# Altium footprint library LPON_IC.PcbLib: 50 footprints (part 4 of 4)
Each footprint in its own frame and in the unit in brackets; x right, y up, seen from the top. Pads: shape width x height; smd on the part's side, far side on the other; paste and mask are expansions set on the pad; w line width, h text height; cw(c..) or ccw(c..) is an arc to the next point about the centre after c.
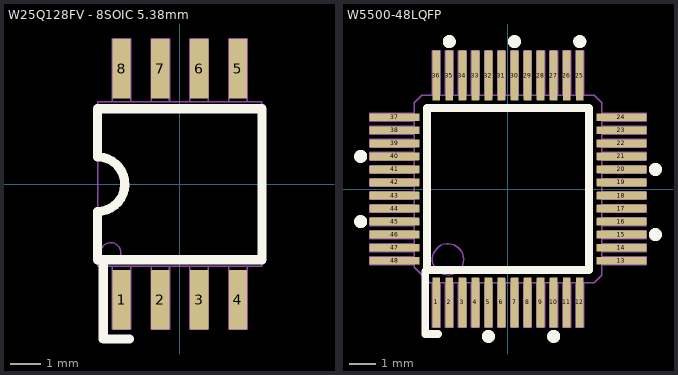
[diagram p3: the footprints below, top view; thin cyan lines are the x and y axes]

## W25Q128FV - 8SOIC 5.38mm [mm] "8-Pin SOIC 208 mil"
height 2.16
pads (8):
  rrect10% 0.6x1.95 smd mask+0.1: 1(-1.905,-3.775) 2(-0.635,-3.775) 3(0.635,-3.775) 4(1.905,-3.775) 5(1.905,3.775) 6(0.635,3.775) 7(-0.635,3.775) 8(-1.905,3.775)
Top Overlay:
  lines w0.05: -2.42,-5.05 -2.4,-5.03
  lines w0.3: -2.69,-2.47 -2.69,-0.893 ccw(c-2.69,0) -2.645,0.892 ; -2.69,0.892 -2.69,2.47 2.69,2.47 2.69,-2.47 -2.5,-2.47 -2.5,-5.065 -1.639,-5.065
Top hinh chieu bang:
  circle w0.05: c-2.26,-2.25 r0.334
  lines w0.05: -0.935,-2.69 -0.935,-4.75 -0.335,-4.75 -0.335,-2.69 ; -0.935,2.69 -0.935,4.75 -0.335,4.75 -0.335,2.69 ; 0.335,-2.69 0.335,-4.75 0.935,-4.75 0.935,-2.69 ; 0.335,2.69 0.335,4.75 0.935,4.75 0.935,2.69 ; 1.605,-2.69 1.605,-4.75 2.205,-4.75 2.205,-2.69 ; 1.605,2.69 1.605,4.75 2.205,4.75 2.205,2.69 ; -2.205,-4.75 -2.205,-2.69 -2.205,-4.75 ; -2.205,-4.75 -1.605,-4.75 ; -2.205,-4.75 -1.605,-4.75 ; -2.205,4.75 -1.605,4.75 ; -2.205,4.75 -2.205,2.69 -2.205,4.75 ; -2.205,4.75 -1.605,4.75 ; -1.605,-4.75 -1.605,-2.69 -1.605,-4.75 ; -1.605,4.75 -1.605,2.69 -1.605,4.75 ; -2.69,-2.69 2.69,-2.69 2.69,2.69 -2.69,2.69 -2.69,-2.69
  text "8" at -2.04,2.07 h0.4
  text "5" at 1.82,2.07 h0.4
  text "4" at 1.82,-2.51 h0.4
  text "1" at -1.76,-2.51 h0.4
3D body "User Library-SOIC8_(ATTINY12).step": height 2.22, standoff -0.1, extent -2.66,-4.356 2.72,4.036

## W5500-48LQFP [mm] "PT (S-PQFP-G48)"
height 1.6
pads (48):
  rrect10% 0.3x1.9 smd mask+0.05: 1(-2.75,-4.35) 2(-2.25,-4.35) 3(-1.75,-4.35) 4(-1.25,-4.35) 5(-0.75,-4.35) 6(-0.25,-4.35) 7(0.25,-4.35) 8(0.75,-4.35) 9(1.25,-4.35) 10(1.75,-4.35) 11(2.25,-4.35) 12(2.75,-4.35) 25(2.75,4.35) 26(2.25,4.35) 27(1.75,4.35) 28(1.25,4.35) 29(0.75,4.35) 30(0.25,4.35) 31(-0.25,4.35) 32(-0.75,4.35) 33(-1.25,4.35) 34(-1.75,4.35) 35(-2.25,4.35) 36(-2.75,4.35)
  rrect10% 1.9x0.3 smd mask+0.05: 13(4.35,-2.75) 14(4.35,-2.25) 15(4.35,-1.75) 16(4.35,-1.25) 17(4.35,-0.75) 18(4.35,-0.25) 19(4.35,0.25) 20(4.35,0.75) 21(4.35,1.25) 22(4.35,1.75) 23(4.35,2.25) 24(4.35,2.75) 37(-4.35,2.75) 38(-4.35,2.25) 39(-4.35,1.75) 40(-4.35,1.25) 41(-4.35,0.75) 42(-4.35,0.25) 43(-4.35,-0.25) 44(-4.35,-0.75) 45(-4.35,-1.25) 46(-4.35,-1.75) 47(-4.35,-2.25) 48(-4.35,-2.75)
Top Overlay:
  circle w0.3: c5.65,-1.75 r0.1
  circle w0.3: c-5.65,-1.25 r0.1
  circle w0.3: c-5.65,1.25 r0.1
  circle w0.3: c-2.25,5.65 r0.1
  circle w0.3: c0.25,5.65 r0.1
  circle w0.3: c2.75,5.65 r0.1
  circle w0.3: c5.65,0.75 r0.1
  circle w0.3: c1.75,-5.65 r0.1
  circle w0.3: c-0.75,-5.65 r0.1
  lines w0.3: -2.68,-5.56 -3.17,-5.56 -3.17,-3.16 -3.11,-3.1 -3.1,-3.1 ; -3.1,-3.1 -3.1,3.1 3.1,3.1 3.1,-3.1 -3.1,-3.1
Top hinh chieu bang:
  drawing of 201 lines, arcs and shapes, not listed
  text "25" at 1.2,2.6 h0.8
  text "12" at 1.3,-3.4 h0.8
  text "36" at -2.9,2.6 h0.8
  text "24" at 3.4,1.5 h0.8
  text "13" at 3.4,-2.9 h0.8
  text "37" at -2.6,1.5 h0.8
  text "48" at -2.7,-2.5 h0.8
3D body "PT0048A.stp": height 1.56, standoff 0.06, extent -4.507,-4.508 4.508,4.508